# EAGLE library part LIGHTBLUE_BEAN (library paulw11_lightblue_bean)
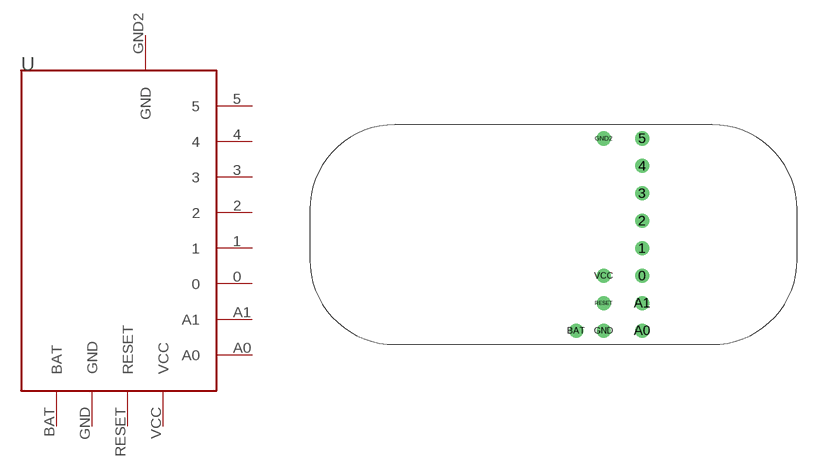
[diagram p0: symbol with the pads of LIGHTBLUE_BEAN; footprint LIGHTBLUE_BEAN]

Designator prefix -

## LIGHTBLUE_BEAN  [LIGHTBLUE_BEAN]
0  0
1  1
2  2
3  3
4  4
5  5
A0  A0
A1  A1
BAT  BAT
GND  GND
GND2  GND
RESET  RESET
VCC  VCC

## Footprint LIGHTBLUE_BEAN (pad centres in mm)
drill 0.8: 0 30.734,6.35; 1 30.734,8.89; 2 30.734,11.43; 3 30.734,13.97; 4 30.734,16.51; 5 30.734,19.05; A0 30.734,1.27; A1 30.734,3.81; BAT 24.638,1.27; GND 27.178,1.27; GND2 27.178,19.05; RESET 27.178,3.81; VCC 27.178,6.35